# EAGLE library part SP3485 (library lantronix-wallplug)
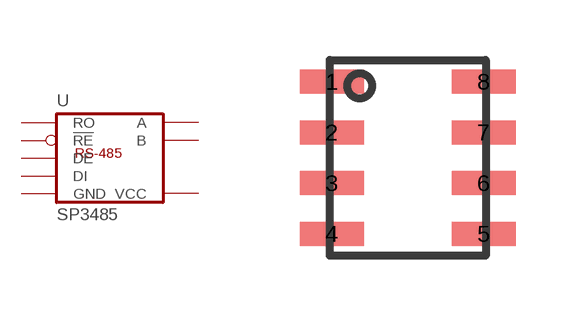
[diagram p2: symbol with the pads of SO8; footprint SO8]

Designator prefix U

## SP3485  [SO8]
1  DI  in
2  !RE  in
3  DE  in
4  RO  out
5  GND  pwr
6  A
7  B
8  VCC  pwr

## Footprint SO8 (pad centres in mm)
SOIC-8 narrow, 3.9 x 4.9 mm, 1.27 mm pitch (SP3485 / AD3485)
smd 1.6 x 0.6: 1 -1.9,1.905; 2 -1.9,0.635; 3 -1.9,-0.635; 4 -1.9,-1.905; 5 1.9,-1.905; 6 1.9,-0.635; 7 1.9,0.635; 8 1.9,1.905